# EAGLE library part AT45DB081D (library BaseApp)
Digikey No :- __1265-1023-5-ND__
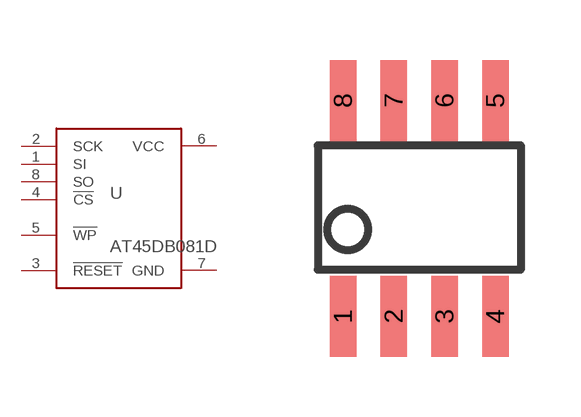
[diagram p57: symbol with the pads of SOIC-8; footprint SOIC-8]

Designator prefix -

## AT45DB081D  [SOIC-8]
1  SI
2  SCK
3  !RESET
4  !CS
5  !WP
6  VCC
7  GND
8  SO

## Footprint SOIC-8 (pad centres in mm)
smd 0.66 x 2.032: 1 -1.905,-2.7; 2 -0.635,-2.7; 3 0.635,-2.7; 4 1.905,-2.7; 5 1.905,2.7; 6 0.635,2.7; 7 -0.635,2.7; 8 -1.905,2.7